# EAGLE library part FSA2257MUX (library Fairchild_By_element14_Batch_1)
Low RON Low voltage Dual SPDT Bi Directional Analog switch
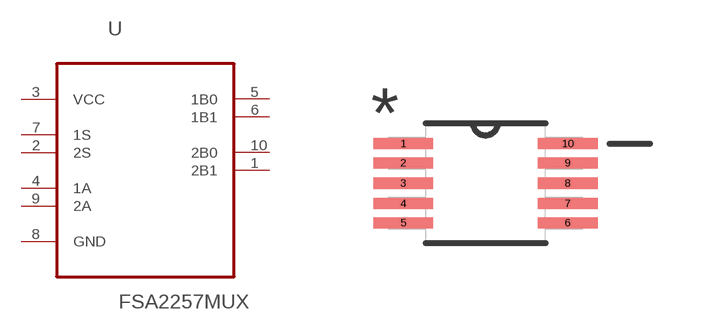
[diagram p186: symbol with the pads of SOP50P490X110-10N; footprint SOP50P490X110-10N]

Designator prefix U

## FSA2257MUX (MPN: FSA2257MUX; OC_FARNELL: 1495452; OC_NEWARK: -; PACKAGE: MSOP-10; SUPPLIER: FAIRCHILD SEMICONDUCTOR)  [SOP50P490X110-10N]
1  2B1
2  2S  in
3  VCC  pwr
4  1A
5  1B0
6  1B1
7  1S  in
8  GND  pas
9  2A
10  2B0

## Footprint SOP50P490X110-10N (pad centres in mm)
smd 1.499 x 0.279: 1 -2.057,0.991; 2 -2.057,0.508; 3 -2.057,0; 4 -2.057,-0.508; 5 -2.057,-0.991; 6 2.057,-0.991; 7 2.057,-0.508; 8 2.057,0; 9 2.057,0.508; 10 2.057,0.991